# Altium footprint library Automotive Connectors.PcbLib: 3 footprints
Each footprint in its own frame and in the unit in brackets; x right, y up, seen from the top. Pads: shape width x height; smd on the part's side, far side on the other; paste and mask are expansions set on the pad; w line width, h text height; cw(c..) or ccw(c..) is an arc to the next point about the centre after c.
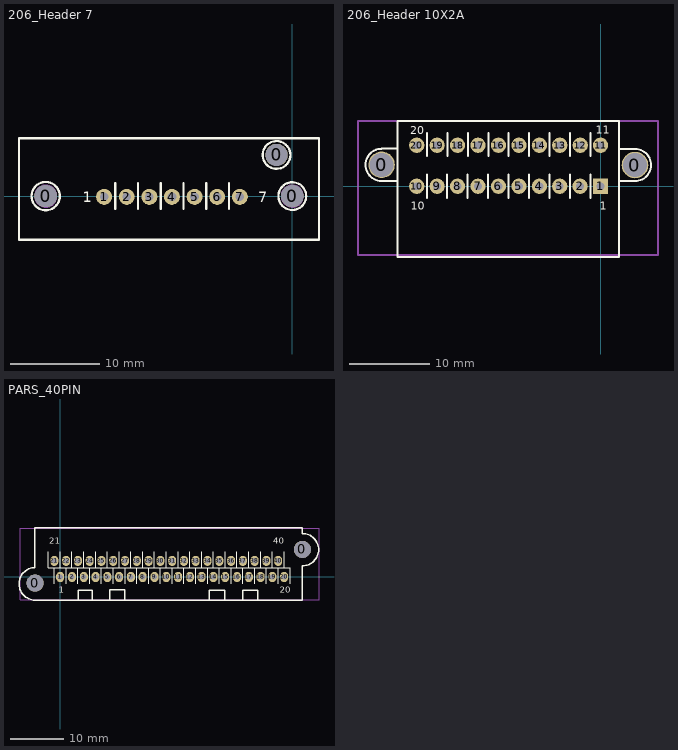
[diagram p0: the footprints below, top view; thin cyan lines are the x and y axes]

## 206_Header 7 [mm]
height 20
pads (10):
  round 2.5 hole 2.5: 0(-27.711,0) 0(-1.776,4.627) 0(0,0)
  round 1.8 hole 0.98: 1(-21.144,-0.077) 2(-18.603,-0.077) 3(-16.062,-0.077) 4(-13.521,-0.077) 5(-10.98,-0.077) 6(-8.439,-0.077) 7(-5.898,-0.077)
Top Overlay:
  circle w0.254: c-27.711,0 r1.586
  circle w0.254: c0,0 r1.56
  circle w0.254: c-1.776,4.627 r1.56
  lines w0.25: -19.888,-1.435 -19.888,1.435 ; -17.334,-1.435 -17.334,1.435 ; -14.779,-1.435 -14.779,1.435 ; -12.225,-1.435 -12.225,1.435 ; -9.67,-1.435 -9.67,1.435 ; -7.116,-1.435 -7.116,1.435 ; -30.709,-4.902 2.997,-4.902 2.997,6.502 -30.709,6.502 -30.709,-4.902
  text "7" at -3.84,-0.71 h1.2
  text "1" at -23.529,-0.71 h1.2
Bottom Overlay:
  lines w0.25: -19.888,-1.422 -19.888,1.448 ; -17.334,-1.422 -17.334,1.448 ; -14.779,-1.422 -14.779,1.448 ; -12.225,-1.422 -12.225,1.448 ; -9.67,-1.422 -9.67,1.448 ; -7.116,-1.422 -7.116,1.448
Mechanical 1:
  circle w0.127: c-0.002,-0.004 r1.25
  circle w0.127: c-27.702,-0.004 r1.25
  circle w0.127: c-27.702,-0.004 r1.25
  circle w0.127: c-0.002,-0.004 r1.25
3D body "Connector 7 pin.STEP": height 17.79, standoff -2.96, extent -30.506,-4.564 2.794,5.936

## 206_Header 10X2A [mm]
pads (22):
  round 3.3 hole 3: 0(-27.219,2.661) 0(4.277,2.636)
  rect 1.9x1.9 hole 0.98: 1(0,0)
  round 1.9 hole 0.98: 2(-2.541,0) 3(-5.082,0) 4(-7.608,0) 5(-10.149,0) 6(-12.69,0) 7(-15.231,0) 8(-17.772,0) 9(-20.313,0) 10(-22.854,0) 11(0,5.097) 12(-2.526,5.097) 13(-5.067,5.097) 14(-7.608,5.097) 15(-10.149,5.097) 16(-12.69,5.097) 17(-15.231,5.097) 18(-17.772,5.097) 19(-20.313,5.097) 20(-22.854,5.097)
Top Overlay:
  lines w0.25: -27.219,0.661 -25.214,0.661 ; -27.203,4.661 -25.254,4.661 ; -21.603,-1.435 -21.603,1.435 ; -21.59,3.734 -21.59,6.604 ; -19.06,-1.435 -19.06,1.435 ; -19.047,3.734 -19.047,6.604 ; -16.517,-1.435 -16.517,1.435 ; -16.503,3.734 -16.503,6.604 ; -13.973,-1.435 -13.973,1.435 ; -13.96,3.734 -13.96,6.604 ; -11.43,-1.435 -11.43,1.435 ; -11.417,3.734 -11.417,6.604 ; -8.887,-1.435 -8.887,1.435 ; -8.873,3.734 -8.873,6.604 ; -6.343,-1.435 -6.343,1.435 ; -6.33,3.734 -6.33,6.604 ; -3.8,-1.435 -3.8,1.435 ; -3.787,3.734 -3.787,6.604 ; -1.257,-1.435 -1.257,1.435 ; -1.244,3.734 -1.244,6.604 ; 2.273,4.636 4.277,4.636 ; 2.312,0.636 4.262,0.636 ; -25.229,-8.814 2.286,-8.814 2.286,8.128 -25.229,8.128 -25.229,-8.814
  lines w0.254: -27.219,0.661 cw(c-27.219,2.661) -27.203,4.661 ; 4.262,0.636 ccw(c4.277,2.636) 4.277,4.636
  text "1" at -0.076,-2.896 h1
  text "10" at -23.571,-2.896 h1
  text "11" at -0.61,6.553 h1
  text "20" at -23.647,6.452 h1
Bottom Overlay:
  lines w0.25: -21.603,-1.435 -21.603,1.435 ; -21.59,3.734 -21.59,6.604 ; -19.06,-1.435 -19.06,1.435 ; -19.047,3.734 -19.047,6.604 ; -16.517,-1.435 -16.517,1.435 ; -16.503,3.734 -16.503,6.604 ; -13.973,-1.435 -13.973,1.435 ; -13.96,3.734 -13.96,6.604 ; -11.43,-1.435 -11.43,1.435 ; -11.417,3.734 -11.417,6.604 ; -8.887,-1.435 -8.887,1.435 ; -8.873,3.734 -8.873,6.604 ; -6.343,-1.435 -6.343,1.435 ; -6.33,3.734 -6.33,6.604 ; -3.8,-1.435 -3.8,1.435 ; -3.787,3.734 -3.787,6.604 ; -1.257,-1.435 -1.257,1.435 ; -1.244,3.734 -1.244,6.604
Mechanical 1:
  lines w0.25: -30.15,-8.56 -30.15,8.128 7.137,8.128 7.137,-8.56 -30.15,-8.56
3D body "connector 20 pin.STEP": height 19.5, standoff 0, extent -30.256,-8.67 7.244,8.23

## PARS_40PIN [mm]
pads (42):
  round 3.2 hole 3.2 unplated: 0(-4.699,-1.156) 0(45.276,5.156)
  oval 1.499x1.905 hole 1: 1(0,0) 2(2.204,0) 3(4.407,0) 4(6.611,0) 5(8.814,0) 6(11.018,0) 7(13.221,0) 8(15.425,0) 9(17.628,0) 10(19.832,0) 11(22.035,0) 12(24.239,0) 13(26.442,0) 14(28.646,0) 15(30.849,0) 16(33.053,0) 17(35.256,0) 18(37.46,0) 19(39.663,0) 20(41.867,0) 21(-1.107,3.009) 22(1.096,3.009) 23(3.3,3.009) 24(5.503,3.009) 25(7.707,3.009) 26(9.91,3.009) 27(12.114,3.009) 28(14.317,3.009) 29(16.521,3.009) 30(18.724,3.009) 31(20.928,3.009) 32(23.131,3.009) 33(25.335,3.009) 34(27.538,3.009) 35(29.742,3.009) 36(31.946,3.009) 37(34.149,3.009) 38(36.353,3.009) 39(38.556,3.009) 40(40.76,3.009)
Top Overlay:
  lines w0.127: -2.209,3.009 -2.209,4.736 ; -2.209,3.466 -2.209,1.739 -0.005,1.739 ; -1.102,-1.27 -1.102,0.457 ; -1.102,0 -1.102,1.727 ; 1.102,-0.457 1.102,1.27 ; 2.198,1.739 2.198,3.466 ; 2.198,3.009 2.198,4.736 ; 3.305,-1.27 3.305,0.457 ; 3.305,0 3.305,1.727 ; 4.402,1.739 4.402,3.466 ; 4.402,3.009 4.402,4.736 ; 5.509,-1.27 5.509,0.457 ; 5.509,0 5.509,1.727 ; 7.712,-1.27 7.712,0.457 ; 7.712,0 7.712,1.727 ; 8.809,1.739 8.809,3.466 ; 8.809,3.009 8.809,4.736 ; 9.916,-1.27 9.916,0.457 ; 9.916,0 9.916,1.727 ; 11.012,1.739 11.012,3.466 ; 11.012,3.009 11.012,4.736 ; 12.119,-1.27 12.119,0.457 ; 12.119,0 12.119,1.727 ; 13.216,1.739 13.216,3.466 ; 13.216,3.009 13.216,4.736 ; 14.323,-1.27 14.323,0.457 ; 14.323,0 14.323,1.727 ; 15.419,1.739 15.419,3.466 ; 15.419,3.009 15.419,4.736 ; 16.526,-1.27 16.526,0.457 ; 16.526,0 16.526,1.727 ; 17.623,1.739 17.623,3.466 ; 17.623,3.009 17.623,4.736 ; 18.73,-1.27 18.73,0.457 ; 18.73,0 18.73,1.727 ; 19.826,1.739 19.826,3.466 ; 19.826,3.009 19.826,4.736 ; 20.933,-1.27 20.933,0.457 ; 20.933,0 20.933,1.727 ; 22.03,1.739 22.03,3.466 ; 22.03,3.009 22.03,4.736 ; 23.137,-1.27 23.137,0.457 ; 23.137,0 23.137,1.727 ; 24.233,1.739 24.233,3.466 ; 24.233,3.009 24.233,4.736 ; 25.34,-1.27 25.34,0.457 ; 25.34,0 25.34,1.727 ; 26.437,1.739 26.437,3.466 ; 26.437,3.009 26.437,4.736 ; 27.544,-1.27 27.544,0.457 ; 27.544,0 27.544,1.727 ; 28.64,1.739 28.64,3.466 ; 28.64,3.009 28.64,4.736 ; 29.747,-1.27 29.747,0.457 ; 29.747,0 29.747,1.727 ; 30.844,1.739 30.844,3.466 ; 30.844,3.009 30.844,4.736 ; 31.951,-1.27 31.951,0.457 ; 31.951,0 31.951,1.727 ; 33.047,1.739 33.047,3.466 ; 33.047,3.009 33.047,4.736 ; 35.251,1.739 35.251,3.466 ; 35.251,3.009 35.251,4.736 ; 36.358,-1.27 36.358,0.457 ; 36.358,0 36.358,1.727 ; 37.454,1.739 37.454,3.466 ; 37.454,3.009 37.454,4.736 ; 38.561,-1.27 38.561,0.457 ; 38.561,0 38.561,1.727 ; 41.861,1.739 41.861,3.466 ; 41.861,3.009 41.861,4.736 ; 42.956,1.739 40.753,1.739 -0.005,1.739 ; 42.968,-1.27 42.968,0.457 ; 42.968,0 42.968,1.727 ; -0.005,1.739 -0.005,3.466 -0.005,1.739 ; -0.005,3.009 -0.005,4.736 -0.005,3.009 ; 1.102,-1.27 1.102,0.457 1.102,-1.27 ; 1.102,0 1.102,1.727 1.102,0 ; 6.605,1.739 6.605,3.466 6.605,1.739 ; 6.605,3.009 6.605,4.736 6.605,3.009 ; 34.154,-1.27 34.154,0.457 34.154,-1.27 ; 34.154,0 34.154,1.727 34.154,0 ; 39.658,1.739 39.658,3.466 39.658,1.739 ; 39.658,3.009 39.658,4.736 39.658,3.009 ; 40.765,-1.27 40.765,0.457 40.765,-1.27 ; 40.765,0 40.765,1.727 40.765,0
  lines w0.254: 3.339,-4.331 3.339,-2.452 6.025,-2.452 6.025,-4.346 ; 9.293,-4.346 9.293,-2.377 12.079,-2.377 12.079,-4.331 ; 27.905,-4.331 27.905,-2.474 30.747,-2.474 30.747,-4.331 ; 34.159,-4.331 34.159,-2.489 36.978,-2.489 36.978,-4.331 ; 45.291,-4.331 -4.724,-4.331 cw(c-4.657,-1.281) -4.724,1.77 -4.724,9.198 45.291,9.198 45.291,8.123 cw(c45.312,5.111) 45.291,2.099 45.291,-4.331 ; 45.291,-4.331 45.291,-4.331
  text "21" at -2.008,5.766 h2.03
  text "40" at 39.827,5.763 h2.03
  text "1" at -0.301,-3.404 h2.03
  text "20" at 41.045,-3.406 h2.03
Bottom Overlay:
  lines w0.127: -2.209,3.009 -2.209,4.736 ; -2.209,3.466 -2.209,1.739 -0.005,1.739 ; -1.102,-1.27 -1.102,0.457 ; -1.102,0 -1.102,1.727 ; 2.198,1.739 2.198,3.466 ; 2.198,3.009 2.198,4.736 ; 3.305,-1.27 3.305,0.457 ; 3.305,0 3.305,1.727 ; 4.402,1.739 4.402,3.466 ; 4.402,3.009 4.402,4.736 ; 5.509,-1.27 5.509,0.457 ; 5.509,0 5.509,1.727 ; 6.605,1.739 6.605,3.466 ; 6.605,3.009 6.605,4.736 ; 7.712,-1.27 7.712,0.457 ; 7.712,0 7.712,1.727 ; 8.809,1.739 8.809,3.466 ; 8.809,3.009 8.809,4.736 ; 9.916,-1.27 9.916,0.457 ; 9.916,0 9.916,1.727 ; 11.012,1.739 11.012,3.466 ; 11.012,3.009 11.012,4.736 ; 12.119,-1.27 12.119,0.457 ; 12.119,0 12.119,1.727 ; 13.216,1.739 13.216,3.466 ; 13.216,3.009 13.216,4.736 ; 14.323,-1.27 14.323,0.457 ; 14.323,0 14.323,1.727 ; 15.419,1.739 15.419,3.466 ; 15.419,3.009 15.419,4.736 ; 16.526,-1.27 16.526,0.457 ; 16.526,0 16.526,1.727 ; 17.623,1.739 17.623,3.466 ; 17.623,3.009 17.623,4.736 ; 18.73,-1.27 18.73,0.457 ; 18.73,0 18.73,1.727 ; 19.826,1.739 19.826,3.466 ; 19.826,3.009 19.826,4.736 ; 20.933,-1.27 20.933,0.457 ; 20.933,0 20.933,1.727 ; 22.03,1.739 22.03,3.466 ; 22.03,3.009 22.03,4.736 ; 23.137,-1.27 23.137,0.457 ; 23.137,0 23.137,1.727 ; 24.233,1.739 24.233,3.466 ; 24.233,3.009 24.233,4.736 ; 25.34,-1.27 25.34,0.457 ; 25.34,0 25.34,1.727 ; 26.437,1.739 26.437,3.466 ; 26.437,3.009 26.437,4.736 ; 27.544,-1.27 27.544,0.457 ; 27.544,0 27.544,1.727 ; 28.64,1.739 28.64,3.466 ; 28.64,3.009 28.64,4.736 ; 29.747,-1.27 29.747,0.457 ; 29.747,0 29.747,1.727 ; 30.844,1.739 30.844,3.466 ; 30.844,3.009 30.844,4.736 ; 31.951,-1.27 31.951,0.457 ; 31.951,0 31.951,1.727 ; 35.251,1.739 35.251,3.466 ; 35.251,3.009 35.251,4.736 ; 36.358,-1.27 36.358,0.457 ; 36.358,0 36.358,1.727 ; 37.454,1.739 37.454,3.466 ; 37.454,3.009 37.454,4.736 ; 38.561,-1.27 38.561,0.457 ; 38.561,0 38.561,1.727 ; 41.861,1.739 41.861,3.466 ; 41.861,3.009 41.861,4.736 ; 42.957,1.739 40.753,1.739 -0.005,1.739 ; 42.969,-1.27 42.969,0.457 ; 42.969,0 42.969,1.727 ; -0.005,1.739 -0.005,3.466 -0.005,1.739 ; -0.005,3.009 -0.005,4.736 -0.005,3.009 ; 1.102,-1.27 1.102,0.457 1.102,-1.27 ; 1.102,0 1.102,1.727 1.102,0 ; 33.047,1.739 33.047,3.466 33.047,1.739 ; 33.047,3.009 33.047,4.736 33.047,3.009 ; 34.154,-1.27 34.154,0.457 34.154,-1.27 ; 34.154,0 34.154,1.727 34.154,0 ; 39.658,1.739 39.658,3.466 39.658,1.739 ; 39.658,3.009 39.658,4.736 39.658,3.009 ; 40.765,-1.27 40.765,0.457 40.765,-1.27 ; 40.765,0 40.765,1.727 40.765,0
  text "20" at 42.932,-3.381 h2.03
  text "40" at 41.885,5.738 h2.03
  text "21" at -0.303,5.766 h2.03
  text "1" at 0.505,-3.429 h2.03
Mechanical 1:
  lines w0.1: -7.493,9.068 48.387,9.068 48.387,-4.242 -7.518,-4.242 -7.518,9.068 -7.493,9.068 ; -7.493,9.068 -7.493,9.068
3D body "40 Pins connector.STEP": height 0.29, standoff -26.61, extent -7.501,-4.237 48.387,9.063